# Altium schematic symbol library GTZ1050_ED01r1.SCHLIB: 46 symbols
Pins are listed as number, name and electrical type; pins without a type are passive.

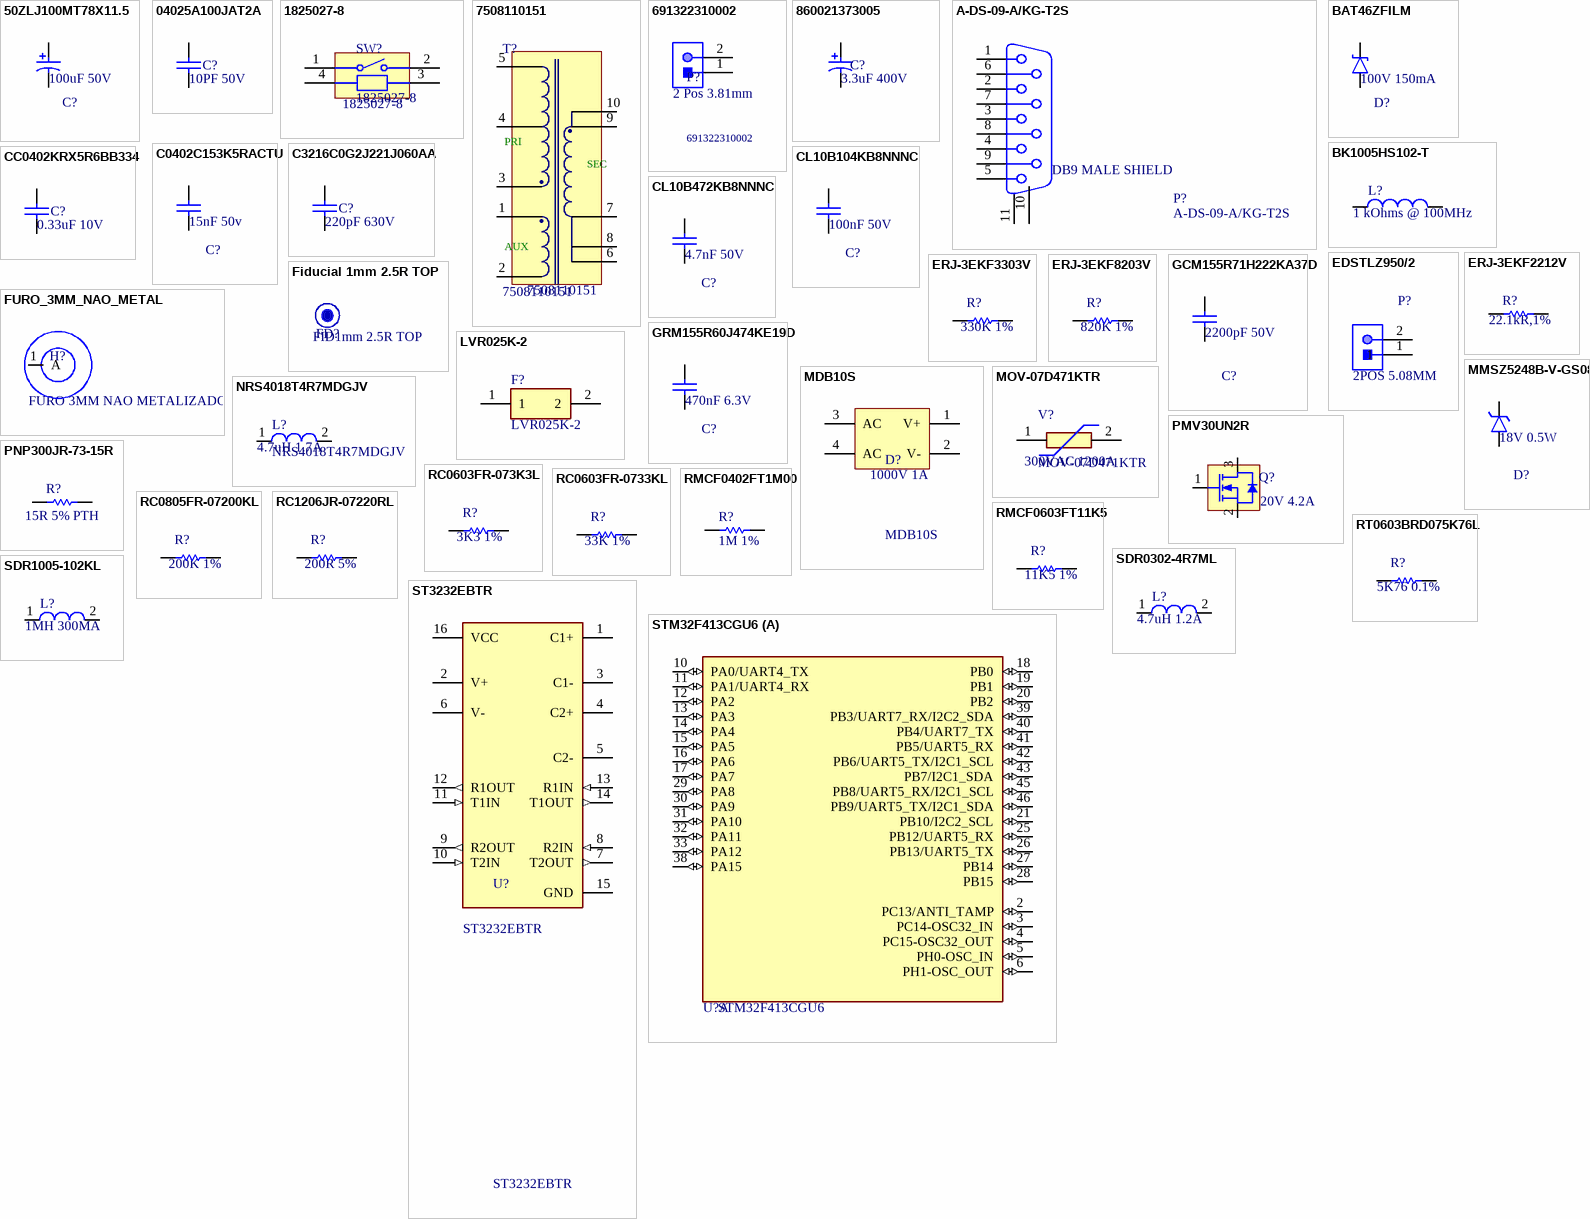
[diagram p0: symbols 50ZLJ100MT78X11.5 to STM32F413CGU6]

## 50ZLJ100MT78X11.5
designator C?  Valor: 100uF 50V  (hidden comment: 50ZLJ100MT78X11.5)
CAP ALUM ELE 100uF 20% 50V RADIAL; Manufacturer: Rubycon; Origem: GTZ1050_ED1R1; Manufacturer Part Number: 50ZLJ100MT78X11.5; Case/Package: Radial
footprint CAP_POL_8Dx3.5x13MM
pins: 1, 2

## 04025A100JAT2A
designator C?  Valor: 10PF 50V  (hidden comment: 04025A100JAT2A)
CAP SMD CER 10PF 50V C0G/NP0 0402; Manufacturer: AVX; Origem: GTZ1050_ED1R1; Case/Package: 0402; Manufacturer Part Number: 04025A100JAT2A
footprint CAP 0402
pins: 1, 2

## 1825027-8
designator SW?
SWITCH Tactile OFF (ON) SPST Round Button PC Pins 0.05A 24VDC 1.57N Thru-Hole Loose; Manufacturer: TE Conn; Origem: GTZ1050_ED01r1; Case/Package: PTH; Manufacturer Part Number: 1825027-8; Valor: 1825027-8
footprint SWI PTH 1825027-8
pins: 1, 2, 3, 4

## 7508110151
designator T?
TRAFO AC/DC OFFLINE TRANSFORMER 120-375V / 5V 1A; Manufacturer: Wurth; Origem: GTZ1050_ED1R1; Case/Package: PTH; Manufacturer Part Number: 7508110151; Valor: 7508110151
footprint TRAFO EP13 10PINS
pins: 1, 2, 3, 4, 5, 6, 7, 8, 9, 10
text: PRI; SEC; AUX

## 691322310002
designator P?  Valor: 2 Pos 3.81mm
CONN TERM BLOCK HDR 2POS 90DEG 3.81MM; Manufacturer: Wurth Elektronik; Manufacturer: Wurth Electronics; Origem: GTZ1050_ED1R1; Manufacturer Part Number: 691322310002; Case/Package: PTH
footprint CONN TERM BLOCK 2POS 3.81MM
pins: 1, 2

## 860021373005
designator C?  Valor: 3.3uF 400V  (hidden comment: 860021373005)
CAP ALUM ELE 3.3uF 20% 400V Radial; Manufacturer: WURTH; Origem: GTZ1050_ED1R1; Case/Package: Radial; Manufacturer Part Number: 860021373005
footprint CAP POL 6.3Dx2.5x15MM
pins: 1, 2

## A-DS-09-A/KG-T2S
designator P?  Valor: DB9 MALE SHIELD
CONN DB9 Male R/A Connector, Through-hole; Manufacturer: Assmann WSW comp; Origem: GTZ1050_ED1R1; Case/Package: PTH; Manufacturer Part Number: A-DS-09-A/KG-T2S
footprint CONN DB9 MALE SHIELD PTH
pins: 1, 2, 3, 4, 5, 6, 7, 8, 9, 10 MH1, 11 MH2

## BAT46ZFILM
designator D?  Valor: 100V 150mA  (hidden comment: BAT46ZFILM)
DIO SCHOTTKY 100V 150MA SOD123; Manufacturer: STMicroelectronics; Origem: GTZ1050_ED1R1; Manufacturer Part Number: BAT46ZFILM; Case/Package: SOD-123FL
footprint DIO SOD-123FL
pins: 1 A, 2 K

## BK1005HS102-T
designator L?  Valor: 1 kOhms @ 100MHz  (hidden comment: BK1005HS102-T)
FERRITE BEAD 1 KOHM 0402 1LN; Manufacturer: Taiyo Yuden; Origem: GTZ1050_ED1R1; Manufacturer Part Number: BK1005HS102-T; Case/Package: 0402
footprint IND 0402
pins: 1, 2

## C0402C153K5RACTU
designator C?  Valor: 15nF 50v  (hidden comment: C0402C153K5RACTU)
CAP SMD CER 15nF 50V 0402; Manufacturer: KEMET; Origem: GTZ1050_ED1R1; Manufacturer Part Number: C0402C153K5RACTU; Case/Package: 0402
footprint CAP 0603
pins: 1, 2

## C3216C0G2J221J060AA
designator C?  Valor: 220pF 630V  (hidden comment: C3216C0G2J221J060AA)
CAP SMD CER 220PF 630V C0G 1206; Manufacturer: TDK; Origem: GTZ1050_ED1R1; Case/Package: 1206; Manufacturer Part Number: C3216C0G2J221J060AA
footprint CAP 1206
pins: 1, 2

## CC0402KRX5R6BB334
designator C?  Valor: 0.33uF 10V  (hidden comment: CC0402KRX5R6BB334)
CAP SMD CER 0.33UF 10V X5R 0402; Manufacturer: Yageo; Origem: GTZ1050_ED1R1; Manufacturer Part Number: CC0402KRX5R6BB334; Case/Package: 0402
footprint CAP 0402
pins: 1, 2

## CL10B104KB8NNNC
designator C?  Valor: 100nF 50V  (hidden comment: CL10B104KB8NNNC)
CAP SMD CER 100nF 50V 0603; Manufacturer: Samsung; Origem: GTZ1050_ED1R1; Manufacturer Part Number: CL10B104KB8NNNC; Case/Package: 0603
footprint CAP 0603
pins: 1, 2

## CL10B472KB8NNNC
designator C?  Valor: 4.7nF 50V  (hidden comment: CL10B472KB8NNNC)
CAP SMD CER 4.7nF 50V 0603; Manufacturer: Samsung; Origem: GTZ1050_ED1R1; Manufacturer Part Number: CL10B472KB8NNNC; Case/Package: 0603
footprint CAP 0603
pins: 1, 2

## EDSTLZ950/2
designator P?  Valor: 2POS 5.08MM  (hidden comment: EDSTLZ950/2)
CONN TERM BLOCK HDR 2POS 90DEG 5.08MM; Manufacturer: On-Shore Technology; Origem: GTZ1050_ED1R1; Manufacturer Part Number: EDSTLZ950/2; Case/Package: PTH
footprint CONN TERM BLOCK 2POS 5.08MM
pins: 1, 2

## ERJ-3EKF2212V
designator R?  Valor: 22.1kR,1%  (hidden comment: ERJ-3EKF2212V)
RES SMD 22K1 OHM 1% 1/10W 0603; Manufacturer: Panasonic; Origem: GTZ1050_ED1R1; Manufacturer Part Number: ERJ-3EKF2212V; Case/Package: 0603
footprint RES 0603
pins: 1, 2

## ERJ-3EKF3303V
designator R?  Valor: 330K 1%  (hidden comment: ERJ-3EKF3303V)
RES SMD 330K 1% 0603; Manufacturer: Panasonic; Origem: GTZ1050_ED1R1; Manufacturer Part Number: ERJ-3EKF3303V; Case/Package: 0603
footprint RES 0603
pins: 1, 2

## ERJ-3EKF8203V
designator R?  Valor: 820K 1%  (hidden comment: ERJ-3EKF8203V)
RES SMD 820K 1%  0603; Manufacturer: Panasonic; Origem: GTZ1050_ED1R1; Manufacturer Part Number: ERJ-3EKF8203V; Case/Package: 0603
footprint RES 0603
pins: 1, 2

## Fiducial 1mm 2.5R TOP
designator FD?  Valor: FID1mm 2.5R TOP  (hidden comment: Fiducial 1mm 2.5R TOP)
Manufacturer: V2COM; Origem: GTZ1050_ED1R1; Case/Package: SMD; Manufacturer Part Number: Fiducial 1mm 2.5R TOP
footprint FID 1MM 2.5R TOP

## FURO_3MM_NAO_METAL
designator H?  (value not drawn)
FURO 3MM NAO METALIZADO; Manufacturer: V2COM; Origem: GTZ1050_ED01r1; Case/Package: PTH; Manufacturer Part Number: FURO 3MM NAO METAL; Valor: FURO 3MM NAO METALIZADO
footprint FURO_3MM_NAO_METAL
pins: 1 A

## GCM155R71H222KA37D
designator C?  Valor: 2200pF 50V  (hidden comment: GCM155R71H222KA37D)
CAP SMD CER 2200PF 50V X7R 0402; Manufacturer: Murata; Origem: GTZ1050_ED1R1; Manufacturer Part Number: GCM155R71H222KA37D; Case/Package: 0402
footprint CAP 0402
pins: 1, 2

## GRM155R60J474KE19D
designator C?  Valor: 470nF 6.3V  (hidden comment: GRM155R60J474KE19D)
CAP SMD CER 470nF 6.3V 0402; Manufacturer: Murata; Origem: GTZ1050_ED1R1; Manufacturer Part Number: GRM155R60J474KE19D; Case/Package: 0402
footprint CAP 0402
pins: 1, 2

## LVR025K-2
designator F?
PTC RESET FUSE 240V 250MA RADIAL; Manufacturer: Littelfuse; Manufacturer Part Number: F27075-000; Origem: GTZ1050_ED1R1; Case/Package: Radial; Valor: LVR025K-2
footprint PTC LVR025K2
pins: 1, 2

## MDB10S
designator D?  Valor: 1000V 1A
DIO Bridge Rectifiers 1A Bridge Rectifier; Manufacturer: ON SEMI; Origem: GTZ1050_ED1R1; Case/Package: 4-MicroDIP; Manufacturer Part Number: MDB10S
footprint DIO 4-MicroDIP
pins: 1 V+ (power), 2 V- (power), 3 AC (power), 4 AC (power)

## MMSZ5248B-V-GS08
designator D?  Valor: 18V 0.5W  (hidden comment: MMSZ5248B-V-GS08)
DIO ZENER 18V 0.5W; Manufacturer: Vishay; Origem: GTZ1050_ED1R1; Manufacturer Part Number: MMSZ5248B-V-GS08; Case/Package: SOD-123FL
footprint DIO SOD-123FL
pins: 1 A, 2 K

## MOV-07D471KTR
designator V?  Valor: 300VAC 1200A
VAR PTH MOV 300VAC/385VDC 1200A 470V Radial; Manufacturer: Bourns; Origem: GTZ1050_ED1R1; Manufacturer Part Number: MOV-07D471KTR; Case/Package: PTH Radial
footprint VAR MOV-07D
pins: 1, 2

## NRS4018T4R7MDGJV
designator L?  Valor: 4.7uH 1.7A
IND POWER Shielded Wirewound 4.7uH 20% 100KHz Ferrite 1.7A Embossed T/R; Manufacturer: Taiyo Yuden; Origem: GTZ1050_ED1R1; Manufacturer Part Number: NRS4018T4R7MDGJV; Case/Package: SMD
footprint IND NR4018
pins: 1, 2

## PMV30UN2R
designator Q?  Valor: 20V 4.2A  (hidden comment: PMV30UN2R)
TRANS MOSFET N 20V 4.2A; Manufacturer: Nexperia; Origem: GTZ1050_ED1R1; Manufacturer Part Number: PMV30UN2R; Case/Package: SOT-23-3
footprint IC SOT23-3
pins: 1 G, 2 S, 3 D

## PNP300JR-73-15R
designator R?  Valor: 15R 5% PTH  (hidden comment: PNP300JR-73-15R)
RES PTH 15R OHM 3W 5% AXIAL; Manufacturer: Yageo; Origem: GTZ1050_ED1R1; Manufacturer Part Number: PNP300JR-73-15R; Case/Package: Axial
footprint RES PTH VERTICAL D1mmx5.08mm
pins: 1, 2

## RC0603FR-073K3L
designator R?  Valor: 3K3 1%  (hidden comment: RC0603FR-073K3L)
RES SMD 3K3 1% 0.1W 0603; Manufacturer: Yageo Phycomp; Origem: GTZ1050_ED1R1; Manufacturer Part Number: RC0603FR-073K3L; Case/Package: 0603
footprint RES 0603
pins: 1, 2

## RC0603FR-0733KL
designator R?  Valor: 33K 1%  (hidden comment: RC0603FR-0733KL)
RES SMD 33K OHM 1% 1/16W 0603; Manufacturer: Yageo Phycomp; Origem: GTZ1050_ED1R1; Manufacturer Part Number: RC0603FR-0733KL; Case/Package: 0603
footprint RES 0603
pins: 1, 2

## RC0805FR-07200KL
designator R?  Valor: 200K 1%  (hidden comment: RC0805FR-07200KL)
RES SMD 200K OHM 1% 1/8W 0805; Manufacturer: Yageo; Origem: GTZ1050_ED1R1; Manufacturer Part Number: RC0805FR-07200KL; Case/Package: 0805
footprint RES 0805
pins: 1, 2

## RC1206JR-07220RL
designator R?  Valor: 200R 5%  (hidden comment: RC1206JR-07220RL)
RES SMD 220R OHM 5% 1/4W 1206; Manufacturer: Yageo; Origem: GTZ1050_ED1R1; Manufacturer Part Number: RC1206JR-07220RL; Case/Package: 1206
footprint RES 1206
pins: 1, 2

## RMCF0402FT1M00
designator R?  Valor: 1M 1%  (hidden comment: RMCF0402FT1M00)
RES SMD 1M OHM 1% 1/16W 0402; Manufacturer: Stackpole Electronics; Origem: GTZ1050_ED1R1; Manufacturer Part Number: RMCF0402FT1M00; Case/Package: 0402
footprint RES 0402 (RESISTOR 0402)
pins: 1, 2

## RMCF0603FT11K5
designator R?  Valor: 11K5 1%  (hidden comment: RMCF0603FT11K5)
RES SMD 11K5 OHM 1% 1/10W 0603; Manufacturer: Stackpole Electronics; Origem: GTZ1050_ED1R1; Manufacturer Part Number: RMCF0603FT11K5; Case/Package: 0603
footprint RES 0603
pins: 1, 2

## RT0603BRD075K76L
designator R?  Valor: 5K76 0.1%  (hidden comment: RT0603BRD075K76L)
RES SMD 5K76 OHM 0.1% 1/10W; Manufacturer: Yageo; Origem: GTZ1050_ED1R1; Manufacturer Part Number: RT0603BRD075K76L; Case/Package: 0603
footprint RES 0603
pins: 1, 2

## SDR0302-4R7ML
designator L?  Valor: 4.7uH 1.2A  (hidden comment: SDR0302-4R7ML)
IND POWER Wirewound 4.7uH 20% 1KHz 18Q-Factor Ferrite 1.2A T/R; Manufacturer: BOURNS; Origem: GTZ1050_ED1R1; Case/Package: SMD; Manufacturer Part Number: SDR0302-4R7ML
footprint IND SDR0302
pins: 1, 2

## SDR1005-102KL
designator L?  Valor: 1MH 300MA  (hidden comment: SDR1005-102KL)
IND FIXED 1MH 300MA 3.9 OHM SMD; Manufacturer: Bourns; Origem: GTZ1050_ED1R1; Manufacturer Part Number: SDR1005-102KL; Case/Package: SMD
footprint IND SDR1005
pins: 1, 2

## ST3232EBTR
designator U?
IC TRANSCEIVER FULL 2/2 16TSSOP; Manufacturer: STMicroelectronics; Origem: GTZ1050_ED1R1; Manufacturer Part Number: ST3232EBTR; Case/Package: TSSOP; Valor: ST3232EBTR
footprint IC TSSOP16
pins: 1 C1+, 2 V+, 3 C1-, 4 C2+, 5 C2-, 6 V-, 7 T2OUT (out), 8 R2IN (in), 9 R2OUT (out), 10 T2IN (in), 11 T1IN (in), 12 R1OUT (out), 13 R1IN (in), 14 T1OUT (out), 15 GND (power), 16 VCC (power)

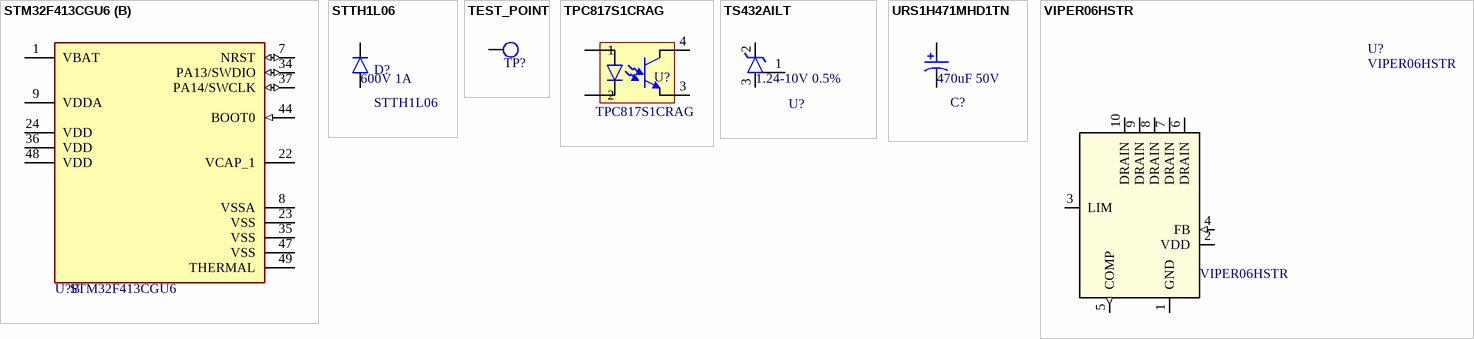
[diagram p1: symbols STM32F413CGU6 to VIPER06HSTR]

## STM32F413CGU6
designator U?
MCU 32BIT 1MB FLASH 48UFQFPN; Manufacturer: STMicroelectronics; Origem: GTZ1050_ED1R1; Manufacturer Part Number: STM32F413CGU6; Case/Package: 48UFQFPN; Valor: STM32F413CGU6
footprint IC 48UFQFPN
part A pins: 2 PC13/ANTI_TAMP (io) "EVENTOUT,TAMP_1", 3 PC14-OSC32_IN (io) "EVENTOUT,OSC32_IN", 4 PC15-OSC32_OUT (io) "EVENTOUT,OSC32_OUT", 5 PH0-OSC_IN (io) "EVENTOUT,OSC_IN", 6 PH1-OSC_OUT (io) "EVENTOUT,OSC_OUT", 10 PA0/UART4_TX (io) "TIM2_CH1/TIM2_ETR,  TIM5_CH1, TIM8_ETR,  USART2_CTS,  UART4_TX, EVENTOUT,ADC1_IN0,  WKUP1", 11 PA1/UART4_RX (io) "TIM2_CH2, TIM5_CH2,  SPI4_MOSI/I2S4_SD,  USART2_RTS,  UART4_RX,  QUADSPI_BK1_IO3,  EVENTOUT,ADC1_IN1", 12 PA2 (io) "TIM2_CH3, TIM5_CH3,  TIM9_CH1, I2S2_CKIN,  USART2_TX,  FSMC_D4/FSMC_DA4,  EVENTOUT,ADC1_IN2", 13 PA3 (io) "TIM2_CH4, TIM5_CH4,  TIM9_CH2, I2S2_MCK,  USART2_RX,  SAI1_SD_B,  FSMC_D5/FSMC_DA5,  EVENTOUT,ADC1_IN3", 14 PA4 (io) "SPI1_NSS/I2S1_WS,  SPI3_NSS/I2S3_WS,  USART2_CK,  DFSDM1_DATIN1,  FSMC_D6/FSMC_DA6,  EVENTOUT,ADC1_IN4,  DAC_OUT1", 15 PA5 (io) "TIM2_CH1/TIM2_ETR,  TIM8_CH1N,  SPI1_SCK/I2S1_CK,  DFSDM1_CKIN1,  FSMC_D7/FSMC_DA7,  EVENTOUT,ADC1_IN5,  DAC_OUT2", 16 PA6 (io) "TIM1_BKIN, TIM3_CH1,  TIM8_BKIN,  SPI1_MISO, I2S2_MCK,  DFSDM2_CKIN1,  TIM13_CH1,  QUADSPI_BK2_IO0,  SDIO_CMD,  EVENTOUT,ADC1_IN6", 17 PA7 (io) "TIM1_CH1N,  TIM3_CH2,  TIM8_CH1N,  SPI1_MOSI/I2S1_SD,  DFSDM2_DATIN1,  TIM14_CH1,  QUADSPI_BK2_IO1,  EVENTOUT,ADC1_IN7", 18 PB0 (io) "TIM1_CH2N,  TIM3_CH3,  TIM8_CH2N,  SPI5_SCK/I2S5_CK,  EVENTOUT,ADC1_IN8", 19 PB1 (io) "TIM1_CH3N,  TIM3_CH4,  TIM8_CH3N,  SPI5_NSS/I2S5_WS,  DFSDM1_DATIN0,  QUADSPI_CLK,  EVENTOUT,ADC1_IN9", 20 PB2 (io) "LPTIM1_OUT,  DFSDM1_CKIN0,  QUADSPI_CLK,  EVENTOUT,BOOT1", 21 PB10/I2C2_SCL (io) "TIM2_CH3, I2C2_SCL,  SPI2_SCK/I2S2_CK,  I2S3_MCK,  USART3_TX,  I2CFMP1_SCL,  DFSDM2_CKOUT,  SDIO_D7, EVENTOUT", 25 PB12/UART5_RX (io) "TIM1_BKIN,  I2C2_SMBA,  SPI2_NSS/I2S2_WS,  SPI4_NSS/I2S4_WS,  SPI3_SCK/I2S3_CK,  USART3_CK,  CAN2_RX,  DFSDM1_DATIN1,  UART5_RX,  FSMC_D13/FSMC_DA1  3, EVENTOUT", 26 PB13/UART5_TX (io) "TIM1_CH1N,  I2CFMP1_SMBA,  SPI2_SCK/I2S2_CK,  SPI4_SCK/I2S4_CK,  USART3_CTS,  CAN2_TX,  DFSDM1_CKIN1,  UART5_TX, EVENTOUT", 27 PB14 (io) "TIM1_CH2N,  TIM8_CH2N,  I2CFMP1_SDA,  SPI2_MISO,  I2S2ext_SD,  USART3_RTS,  DFSDM1_DATIN2,  TIM12_CH1,  FSMC_D0/FSMC_DA0,  SDIO_D6, EVENTOUT", 28 PB15 (io) "RTC_REFIN,  TIM1_CH3N,  TIM8_CH3N,  I2CFMP1_SCL,  SPI2_MOSI/I2S2_SD,  DFSDM1_CKIN2,  TIM12_CH2, SDIO_CK,  EVENTOUT", 29 PA8 (io) "MCO_1, TIM1_CH1,  I2C3_SCL,  DFSDM1_CKOUT,  USART1_CK,  UART7_RX,  USB_FS_SOF,  CAN3_RX, SDIO_D1,  EVENTOUT", 30 PA9 (io) "TIM1_CH2,  DFSDM2_CKIN3,  I2C3_SMBA,  SPI2_SCK/I2S2_CK,  USART1_TX,  USB_FS_VBUS,  SDIO_D2, EVENTOUT", 31 PA10 (io) "TIM1_CH3,  DFSDM2_DATIN3,  SPI2_MOSI/I2S2_SD,  SPI5_MOSI/I2S5_SD,  USART1_RX,  USB_FS_ID,  EVENTOUT", 32 PA11 (io) "TIM1_CH4,  DFSDM2_CKIN5,  SPI2_NSS/I2S2_WS,  SPI4_MISO,  USART1_CTS,  USART6_TX,  CAN1_RX,  USB_FS_DM,  UART4_RX,  EVENTOUT", 33 PA12 (io) "TIM1_ETR,  DFSDM2_DATIN5,  SPI2_MISO,  SPI5_MISO,  USART1_RTS,  USART6_RX,  CAN1_TX, USB_FS_DP,  UART4_TX, EVENTOUT", 38 PA15 (io) "JTDI,  TIM2_CH1/TIM2_ETR,  SPI1_NSS/I2S1_WS,  SPI3_NSS/I2S3_WS,  USART1_TX,  UART7_TX,  SAI1_MCLK_A,  CAN3_TX, EVENTOUT", 39 PB3/UART7_RX/I2C2_SDA (io) "JTDO-SWO, TIM2_CH2,  I2CFMP1_SDA,  SPI1_SCK/I2S1_CK,  SPI3_SCK/I2S3_CK,  USART1_RX,  UART7_RX, I2C2_SDA,  SAI1_SD_A, CAN3_RX,  EVENTOUT", 40 PB4/UART7_TX (io) "JTRST, TIM3_CH1,  SPI1_MISO,  SPI3_MISO,  I2S3ext_SD,  UART7_TX, I2C3_SDA,  SAI1_SCK_A,  CAN3_TX, SDIO_D0,  EVENTOUT", 41 PB5/UART5_RX (io) "LPTIM1_IN1,  TIM3_CH2,  I2C1_SMBA,  SPI1_MOSI/I2S1_SD,  SPI3_MOSI/I2S3_SD,  CAN2_RX, SAI1_FS_A,  UART5_RX, SDIO_D3,  EVENTOUT", 42 PB6/UART5_TX/I2C1_SCL (io) "LPTIM1_ETR,  TIM4_CH1, I2C1_SCL,  DFSDM2_CKIN7,  USART1_TX, CAN2_TX,  QUADSPI_BK1_NCS,  UART5_TX, SDIO_D0,  EVENTOUT", 43 PB7/I2C1_SDA (io) "LPTIM1_IN2,  TIM4_CH2, I2C1_SDA,  DFSDM2_DATIN7,  USART1_RX,  FSMC_NL, EVENTOUT", 45 PB8/UART5_RX/I2C1_SCL (io) "LPTIM1_OUT,  TIM4_CH3, TIM10_CH1,  I2C1_SCL,  SPI5_MOSI/I2S5_SD,  DFSDM2_CKIN1,  CAN1_RX, I2C3_SDA,  UART5_RX, SDIO_D4,  EVENTOUT", 46 PB9/UART5_TX/I2C1_SDA (io) "TIM4_CH4, TIM11_CH1,  I2C1_SDA,  SPI2_NSS/I2S2_WS,  DFSDM2_DATIN1,  CAN1_TX, I2C2_SDA,  UART5_TX, SDIO_D5,  EVENTOUT"
part B pins: 1 VBAT (power), 7 NRST (io) "RESET", 8 VSSA (power), 9 VDDA (power), 22 VCAP_1 (power), 23 VSS (power), 24 VDD (power), 34 PA13/SWDIO (io) "JTMS-SWDIO,  EVENTOUT", 35 VSS (power), 36 VDD (power), 37 PA14/SWCLK (io) "JTCK-SWCLK,  EVENTOUT", 44 BOOT0 (in), 47 VSS (power), 48 VDD (power), 49 THERMAL

## STTH1L06
designator D?  Valor: 600V 1A
DIO GEN PURP 600V 1A DO41; Manufacturer: ST; Origem: GTZ1050_ED1R1; Manufacturer Part Number: STTH1L06; Case/Package: DO214-AC (SMA)
footprint DIO DO214-AC SMA
pins: 1 A, 2 K

## TEST_POINT
designator TP?  (value not drawn)
Manufacturer: V2COM; Origem: GTZ1050_ED1R1; Case/Package: SMD; Manufacturer Part Number: TEST_POINT
footprint TESTPOINT D1.3mm
pins: 1

## TPC817S1CRAG
designator U?
OPTOISO 5KV TRANS 4SOP; Manufacturer: Taiwan Semiconductor; Origem: GTZ1050_ED1R1; Manufacturer Part Number: TPC817S1CRAG; Case/Package: 4SOP; Valor: TPC817S1CRAG
footprint IC 4SOP
pins: 1, 2, 3, 4

## TS432AILT
designator U?  Valor: 1.24-10V 0.5%  (hidden comment: TS432AILT)
IC VREF SHUNT ADJ SOT23-3; Manufacturer: STMicroelectronics; Origem: GTZ1050_ED1R1; Manufacturer Part Number: TS432AILT; Case/Package: SOT-23-3
footprint IC SOT23-3
pins: 1 REF (power), 2 K, 3 A

## URS1H471MHD1TN
designator C?  Valor: 470uF 50V  (hidden comment: URS1H471MHD1TN)
CAP ALUM ELE 470UF 20% 50V RADIAL; Manufacturer: Nichicon; Origem: GTZ1050_ED1R1; Manufacturer Part Number: URS1H471MHD1TN; Case/Package: Radial
footprint CAP POL 16Dx7.5x16.5mm
pins: 1, 2

## VIPER06HSTR
designator U?
IC AC/DC Converters VIPer 800V Plus Fixed Freq 115kHz; Manufacturer: ST; Origem: GTZ1050_ED1R1; Manufacturer Part Number: VIPER06HSTR; Case/Package: SOP; Valor: VIPER06HSTR
footprint IC SSO10
pins: 1 GND (power), 2 VDD (power), 3 LIM, 4 FB (in), 5 COMP (out), 6 DRAIN (power), 7 DRAIN (power), 8 DRAIN (power), 9 DRAIN (power), 10 DRAIN (power)